# Altium schematic symbol library xSchlib.SchLib: 1 symbol
Pins are listed as number, name and electrical type; pins without a type are passive.

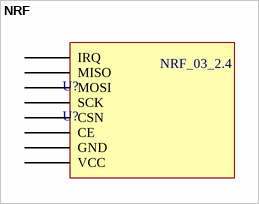
[diagram p0: symbol NRF]

## NRF
designator U?, comment U?
NRF24L01
footprint NRF-1
pins: 1 VCC, 2 GND, 3 CE, 4 CSN, 5 SCK, 6 MOSI, 7 MISO, 8 IRQ
text: NRF_03_2.4